# Altium integrated library Filters.IntLib: 4 symbols
Pins are listed as number, name and electrical type; pins without a type are passive.

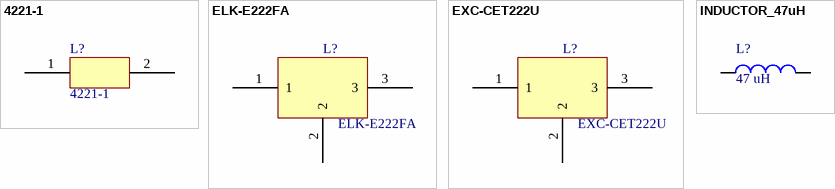
[diagram p0: symbols 4221-1 to INDUCTOR_47uH]

## 4221-1
designator L?
FERRITE BEAD 22 OHM SMT, No 3D; Manufacturer: API Delevan Inc; Impedance @ Frequency: 47 Ohm @ 100MHz; Current Rating: 5A; Filter Type: Differential Mode - Single; Supplier 1: Digi-Key; RoHS: RoHS non-compliant; Description: FERRITE BEAD 22 OHM SMT; Category: Filters; Stock 1: 2102; Pricing 1: 1=0.68, 10=0.64, 50=0.6, 100=0.56 (USD); Packaging: Digi-Reel®; DC Resistance (DCR): -; Package / Case: 2-SMD, J-Lead; Mounting Type: Surface Mount; Height (Max): 0.128" (3.25mm); Size / Dimension: 0.197" L x 0.120" W (5.00mm x 3.05mm); ComponentLink1URL: http://www.delevan.com/seriesPDFs/4221.pdf; ComponentLink1Description: http://www.delevan.com/seriesPDFs/4221.pdf; Supplier Part Number 1: 4221-1DKR-ND; Manufacturer Part Number: 4221-1
footprint FerrBd4221_1 (Molded Inductor, 2-Leads, Body 4.8x3.1mm, IPC Medium Density)
pins: 1, 2

## ELK-E222FA
designator L?
EMI/RFI filter, 2A, 2200 pF; Manufacturer: Panasonic Electronic Components; Description: DIGITAL NOISE FILTER 2MHZ SMD; Type: Low Pass; Number of Channels: 1; Center / Cutoff Frequency: 2MHz (Cutoff); Values: C = 2200pF; ESD Protection: Yes; Filter Order: 3rd; Supplier 1: Digi-Key; Manufacturer Part Number: ELK-E222FA; RoHS: RoHS Compliant; Category: Filters; Stock 1: 51626; Pricing 1: 1=0.48, 50=0.4012, 100=0.378, 1000=0.23145 (USD); Packaging: Digi-Reel®; Technology: LC (T-Type); Attenuation Value: -; Resistance - Channel (Ohms): -; Current: 2A; Applications: Data Lines for Mobile Devices; Package / Case: 1207 (3218 Metric), 3 PC Pad; Size / Dimension: 0.126" L x 0.071" W (3.20mm x 1.80mm); Height: 0.087" (2.20mm); Operating Temperature: -20°C ~ 85°C; ComponentLink1URL: http://industrial.panasonic.com/www-cgi/jvcr13pz.cgi?E+PZ+2+AEH0020+0+4+WW; ComponentLink1Description: http://industrial.panasonic.com/www-cgi/jvcr13pz.cgi?E+PZ+2+AEH0020+0+4+WW; Supplier Part Number 1: P9877DKR-ND
footprint EMI-ELK-E (ELK-E Digital Noise Filter)
pins: 1, 2, 3

## EXC-CET222U
designator L?
EMI/RFI filter, 2A, Discontinued 4/2015; Manufacturer: Panasonic Electronic Components; Description: EMI FILTER 2200PF 50V SMD; Type: Low Pass; Number of Channels: 1; Center / Cutoff Frequency: 65MHz (Cutoff); Attenuation Value: 25dB @ 35MHz ~ 180MHz; Resistance - Channel (Ohms): 0.05; Values: C = 2200pF; ESD Protection: No; Filter Order: 3rd; Supplier 1: Digi-Key; Manufacturer Part Number: EXC-CET222U; RoHS: RoHS Compliant; Category: Filters; Stock 1: 23437; Pricing 1: 1=0.69, 50=0.5752, 100=0.5419 (USD); Packaging: Digi-Reel®; Technology: LC (T-Type); Current: 2A; Applications: Data Lines for Mobile Devices; Package / Case: 1807 (4518 Metric), 3 PC Pad; Size / Dimension: 0.177" L x 0.071" W (4.50mm x 1.80mm); Height: 0.118" (3.00mm); Operating Temperature: -40°C ~ 85°C; ComponentLink1URL: http://industrial.panasonic.com/www-cgi/jvcr13pz.cgi?E+PZ+2+AEH0028+0+4+WW; ComponentLink1Description: http://industrial.panasonic.com/www-cgi/jvcr13pz.cgi?E+PZ+2+AEH0028+0+4+WW; Supplier Part Number 1: P9831DKR-ND
footprint EMI-EXC
pins: 1, 2, 3

## INDUCTOR_47uH
designator L?, comment 47 uH
INDUCTOR POWER 47UH 3.2A SMD; Manufacturer: EPCOS Inc; Manufacturer Part Number: B82477R4473M100; Type: Wirewound; Material - Core: Ferrite; Inductance: 47µH; Tolerance: ±20%; Current - Saturation: 4.9A; Shielding: Shielded; DC Resistance (DCR): 60 mOhm Max; Frequency - Test: 100kHz; Supplier 1: Digi-Key; RoHS: RoHS Compliant; Category: Inductors, Coils, Chokes; Stock 1: 641; Pricing 1: 1=3.21, 10=2.994, 100=2.2238 (USD); Packaging: Cut Tape (CT); Current Rating: 3.2A; Q @ Freq: -; Frequency - Self Resonant: -; Operating Temperature: -; Mounting Type: Surface Mount; Package / Case: Non Standard; Size / Dimension: 0.492" L x 0.492" W (12.50mm x 12.50mm); Height - Seated (Max): 0.335" (8.50mm); Supplier Device Package: -; ComponentLink1URL: http://www.epcos.com/inf/30/ds/b82477r4.pdf; ComponentLink1Description: http://www.epcos.com/inf/30/ds/b82477r4.pdf; Supplier Part Number 1: 495-4544-1-ND
footprint INDUCTOR_125X125X85 (Molded Inductor, 2-Leads, Body 12.5x12.5mm, IPC Medium Density)
pins: 1, 2